# EAGLE library part J00-0066NL (library pulse-eng)
StarJack RJ45 1x1 Tab-DOWN RJ45 w/LEDs
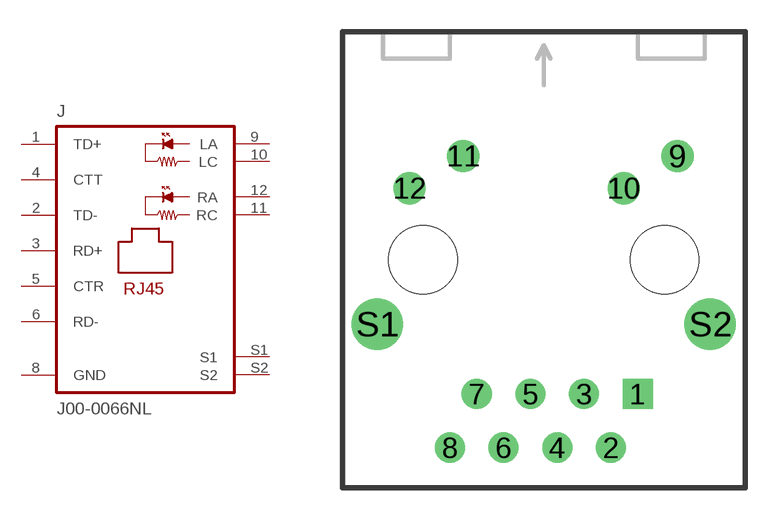
[diagram p38: symbol with the pads of J00-00XXNL; footprint J00-00XXNL]

Designator prefix J

## J00-0066NL  [J00-00XXNL]
1  TD+  pas
2  TD-  pas
3  RD+  pas
4  CTT  pas
5  CTR  pas
6  RD-  pas
8  GND  pas
9  LA  pas
10  LC  pas
11  RC  pas
12  RA  pas
S1  S1  pas
S2  S2  pas

## Footprint J00-00XXNL (pad centres in mm)
StarJack 1x1 Tab-DOWN RJ45
drill 0.914 square: 1 4.445,-6.35
drill 0.914: 2 3.175,-8.89; 3 1.905,-6.35; 4 0.635,-8.89; 5 -0.635,-6.35; 6 -1.905,-8.89; 7 -3.175,-6.35; 8 -4.445,-8.89
drill 1.016: 9 6.325,4.902; 10 3.785,3.378; 11 -3.81,4.902; 12 -6.35,3.378
drill 1.626: S1 -7.874,-3.048; S2 7.874,-3.048
hole 3.251 at -5.715,0
hole 3.251 at 5.715,0